# Altium schematic symbol library numonyx-nand.SchLib: 1 symbol
Pins are listed as number, name and electrical type; pins without a type are passive.

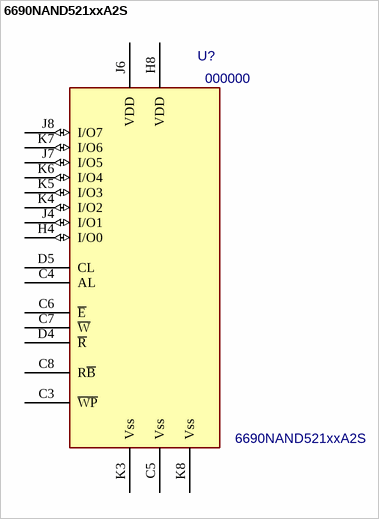
[diagram p0: symbol 6690NAND521xxA2S]

## 6690NAND521xxA2S
designator U?, comment 000000  value 6690NAND521xxA2S
512 Mbit, 528 Byte/264 Word page, x8/x16, 1.8 V/3 V; ExtraInfo: *; Package: TSOP48; PN: 000000
footprint VFBGA63 9 x 11 x 1.05mm (BGA, 63-Leads, Body 10.9x9.0mm,  Pitch 0.80mm)
pins: C3 ~{WP} (power), C4 AL, C5 Vss (power), C6 ~{E}, C7 ~{W}, C8 R~{B}, D4 ~{R}, D5 CL, H4 I/O0 (io), H8 VDD (power), J4 I/O1 (io), J6 VDD (power), J7 I/O5 (io), J8 I/O7 (io), K3 Vss (power), K4 I/O2 (io), K5 I/O3 (io), K6 I/O4 (io), K7 I/O6 (io), K8 Vss (power)